# Altium footprint library LED_0603_SMD.PcbLib: 1 footprints
Each footprint in its own frame and in the unit in brackets; x right, y up, seen from the top. Pads: shape width x height; smd on the part's side, far side on the other; paste and mask are expansions set on the pad; w line width, h text height; cw(c..) or ccw(c..) is an arc to the next point about the centre after c.
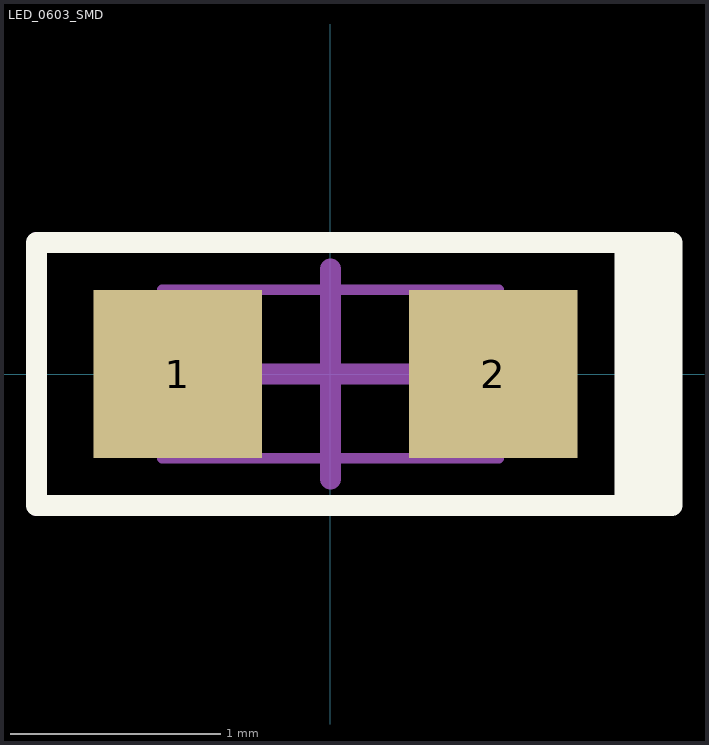
[diagram p0: the footprint, top view; thin cyan lines are the x and y axes]

## LED_0603_SMD [mm] "General Pads for LiteON 0603 LED"
pads (2):
  rect 0.8x0.8 smd: 1(-0.725,0) 2(0.775,0)
Top Overlay:
  rectangle: 1.4,-0.625 1.625,0.625
  lines w0.1: 1.4,-0.625 1.4,0.625 ; -1.397,-0.625 1.625,-0.625 1.625,0.625 -1.397,0.625 -1.397,-0.625
Top Assembly:
  lines w0.05: -0.8,-0.4 0.8,-0.4 0.8,0.4 -0.8,0.4 -0.8,-0.4
  text ".Designator" at -2.499,-0.167 h0.5
Top Courtyard:
  lines w0.05: -1.4,-0.65 1.4,-0.65 1.4,0.65 -1.4,0.65 -1.4,-0.65
  lines w0.1: -0.5,0 0.5,0 ; 0,-0.5 0,0.5
3D body "LED_0603_SMD.STEP": height 0.56, standoff 0.01, extent -0.762,-0.4 0.838,0.4